# EAGLE library part M03X2 (library DSDEagleLibrary)
2x3 .1" header. Shrouded, with keying- CONN-10681 SMT- CONN-11415 Pogo pins- HW-11044
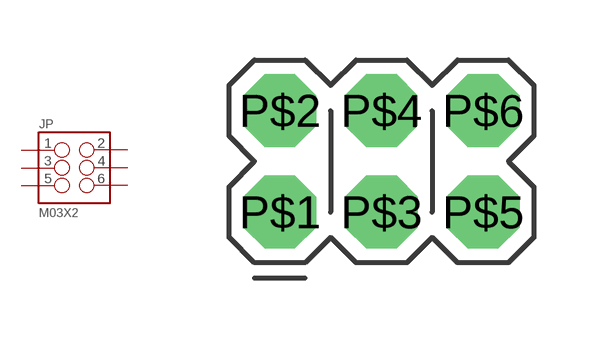
[diagram p17: symbol with the pads of HP_2X3; footprint HP_2X3]

Designator prefix JP

## M03X2POGO_PINS (PROD_ID: HW-11044)  [HP_2X3]
P$1  1
P$2  2
P$3  3
P$4  4
P$5  5
P$6  6

## Footprint HP_2X3 (pad centres in mm)
drill 1.2 pad 1.829 octagon: P$1 0,0; P$2 0,2.54; P$3 2.54,0; P$4 2.54,2.54; P$5 5.08,0; P$6 5.08,2.54